# Altium schematic symbol library 61801525123.SchLib: 1 symbol
Pins are listed as number, name and electrical type; pins without a type are passive.

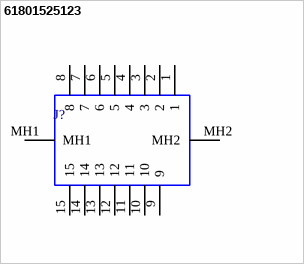
[diagram p0: symbol 61801525123]

## 61801525123
designator J?
Wurth Elektronik 618 Series 2.77 mm, 2.84 mm Pitch 15 Way Straight Through Hole Mount PCB D-sub Connector, Socket; Geometry.Height: 12.25mm; Manufacturer_Name: Wurth Elektronik; Manufacturer_Part_Number: 61801525123; Mouser Part Number: 710-61801525123; Mouser Price/Stock: https://www.mouser.co.uk/ProductDetail/Wurth-Elektronik/61801525123?qs=ZtY9WdtwX55glhDCqAc0Jg%3D%3D; Arrow Part Number: *; Arrow Price/Stock: *; Mouser Testing Part Number: *; Mouser Testing Price/Stock: *; Datasheet Link: https://katalog.we-online.de/em/datasheet/61801525123.pdf
footprint 61801525123
pins: 1, 2, 3, 4, 5, 6, 7, 8, 9, 10, 11, 12, 13, 14, 15, MH1, MH2